# Altium schematic symbol library TpGivenLib.SchLib: 21 symbols
Pins are listed as number, name and electrical type; pins without a type are passive.

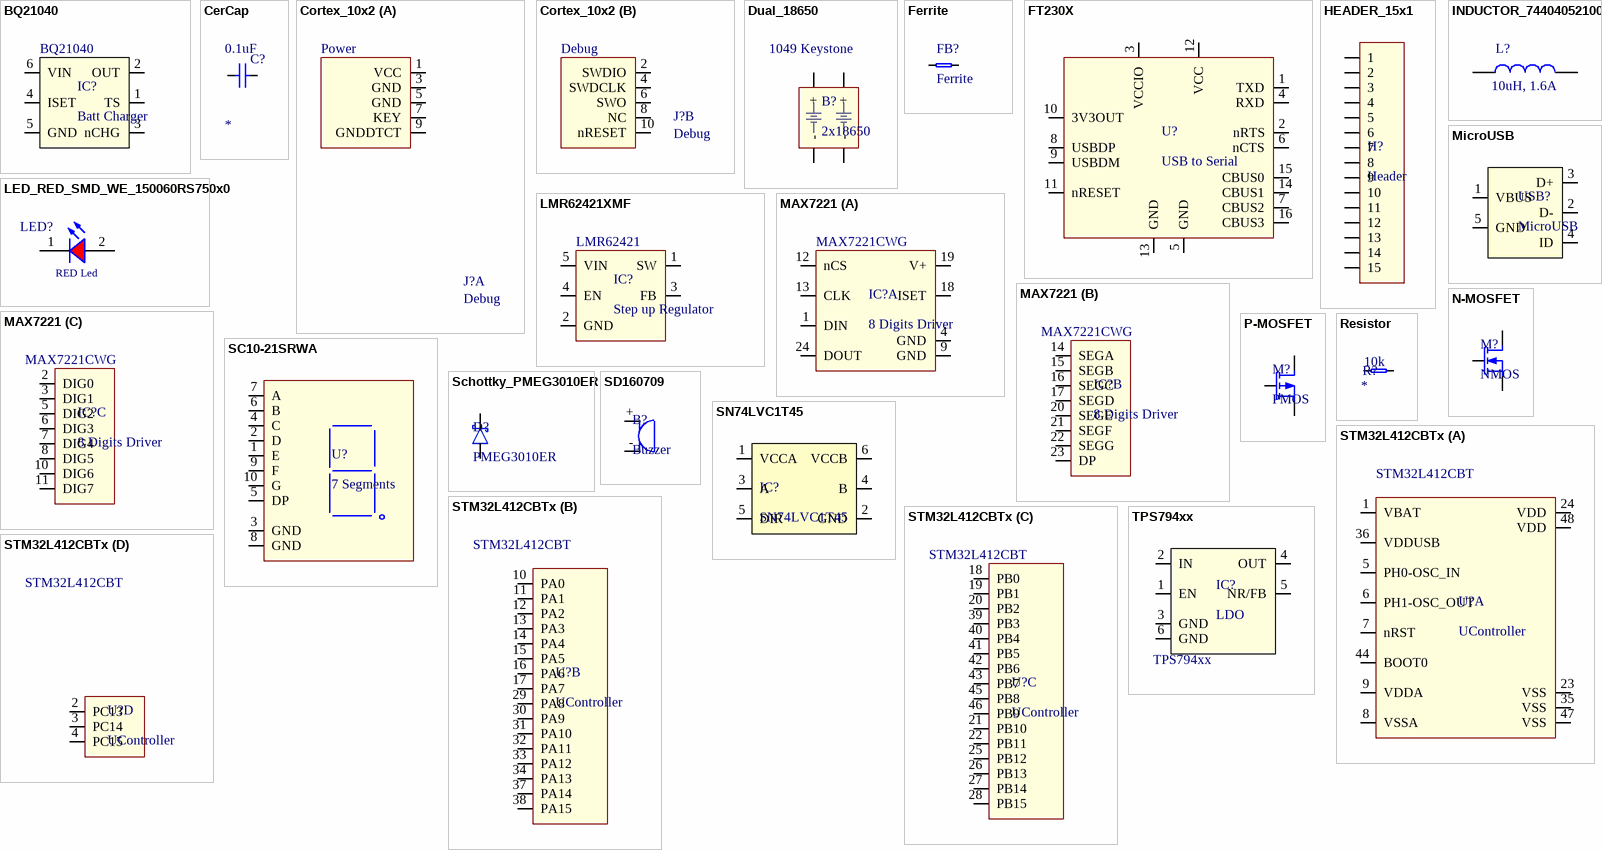
[diagram p0: symbols BQ21040 to TPS794xx]

## BQ21040
designator IC?, comment Batt Charger  chip: BQ21040
Single Input Single Cell Li-ion/Pol Charger
footprint BQ21040 (BQ21040 Texas single Cell Charger SOT23 6 Leads)
pins: 1 TS, 2 OUT, 3 nCHG, 4 ISET, 5 GND, 6 VIN

## CerCap
designator C?  value 0.1uF  (hidden comment: *)
Ceramic Capacitor; Type: *; Voltage/Power: *; Package: *
footprint 0402_CAP_LD (0402 Capacitor low Density)
footprint 0603_CAP_LD (0603 Capacitor Low Density)
footprint 0805_CAP_LD (0805 Capacitor low Density)
pins: 1, 2

## Cortex_10x2
designator J?, comment Debug
Cortex 10 pins Debug Connector
footprint FCI_5x2 (FCI Header 10x2 1.27 pitch)
part A pins: 1 VCC, 3 GND, 5 GND, 7 KEY, 9 GNDDTCT
part B pins: 2 SWDIO, 4 SWDCLK, 6 SWO, 8 NC, 10 nRESET
part A text: Power

## Dual_18650
designator B?, comment 2x18650  ref: 1049 Keystone
Dual 18650 Holder
footprint KEYSTONE_1049_DUAL_18650_HOLDER (Keystone dual 18650 Holder)
pins: A+ +, A- -, B+ +, B- -

## Ferrite
designator FB?
Ferrite Bead
footprint 0603_FER_LD (0603 Ferrite Bead Low Density)
footprint 0603_FER_LD_NAKED (0603 Ferrite Bead Low Density Minimal SilkScreen)
pins: 1, 2

## FT230X
designator U?, comment USB to Serial
FT230X USB to Serial Chip; Reference: FT230XS
footprint FT230XS (FT230XS SSOP16)
pins: 1 TXD, 2 nRTS, 3 VCCIO, 4 RXD, 5 GND, 6 nCTS, 7 CBUS2, 8 USBDP, 9 USBDM, 10 3V3OUT, 11 nRESET, 12 VCC, 13 GND, 14 CBUS1, 15 CBUS0, 16 CBUS3

## HEADER_15x1
designator H?, comment Header
Header 15x1
footprint 653115131822 (1.25mm SMT Male Horizontal Shrouded Header, 15p)
pins: 1, 2, 3, 4, 5, 6, 7, 8, 9, 10, 11, 12, 13, 14, 15

## INDUCTOR_74404052100
designator L?, comment 10uH, 1.6A
WE-LQS SMD Power Inductor, size 5020, 10uH, 1.6A; Part Number: 74404052100; DC Resistance: 109mOhm; Inductance Tolerance: +/-20%; Saturation Current: 1.95A; Self Resonant Frequency: 37MHz; ComponentLink1Description: Manufacturer; ComponentLink1URL: http://www.we-online.de; ComponentLink2Description: Datasheet; ComponentLink2URL: https://katalog.we-online.com/pbs/datasheet/74404052100.pdf; Published Date: May 2019; Publisher: Wurth Elektronik; Rated Current: 1.6A; Inductance: 10uH; Operating Temperature: -40 to +125degC; Mounting Technology: SMT; Packaging: Tape and Reel; DC Resistance Tolerance: +/-20%; Size: 5020; Reference: 74404052100
footprint INDUCTOR_WE-LQS_5020 (SMD Power Inductor, 2-Leads, body 5x5mm)
pins: 1, 2

## LED_RED_SMD_WE_150060RS750x0
designator LED?, comment RED Led
LED RED SMD WE 150060RS750x0; ref: 150060RS750x0
footprint LED_0603_RED (SMD LED 0603)
pins: 1 K, 2 A

## LMR62421XMF
designator IC?, comment Step up Regulator  Reference: LMR62421
LMR62421 simple switcher 24 Vout stepup voltage SOT-23
footprint LMR62421 (LMR62421 Texas SOT-23)
pins: 1 SW, 2 GND, 3 FB, 4 EN, 5 VIN

## MAX7221
designator IC?, comment 8 Digits Driver  Reference: MAX7221CWG
MAX7221 8 Digit 7 Segments Display
footprint MAX7221CWG (MAX7221CWG SOIC 24)
part A pins: 1 DIN, 4 GND, 9 GND, 12 nCS, 13 CLK, 18 ISET, 19 V+, 24 DOUT
part B pins: 14 SEGA, 15 SEGB, 16 SEGC, 17 SEGD, 20 SEGE, 21 SEGF, 22 SEGG, 23 DP
part C pins: 2 DIG0, 3 DIG1, 5 DIG2, 6 DIG3, 7 DIG4, 8 DIG5, 10 DIG6, 11 DIG7

## MicroUSB
designator USB?
Micro USB Header
footprint MOLEX_USB_1050170001 (Molex 1050170001 Micro USB Header)
pins: 1 VBUS, 2 D-, 3 D+, 4 ID, 5 GND

## N-MOSFET
designator M?, comment NMOS
N MOSFET
footprint MOSFET-SOT23 (MOSFET SOT23 Package)
pins: D, G, S

## P-MOSFET
designator M?, comment PMOS
P MOSFET
footprint MOSFET-SOT23 (MOSFET SOT23 Package)
pins: D, G, S

## Resistor
designator R?  value 10k  (hidden comment: Resistor)
Precision: *; Package: *
footprint 0402_RES_LD (0402 Resistor Low Density)
footprint 0603_RES_LD (0603 Resistor Low Density)
pins: 1, 2

## SC10-21SRWA
designator U?, comment 7 Segments
KingBright Led 7 Segments; Reference: SC10-21SRWA
footprint SA10-21GWA (KingBright 7 Segment SA10-21GWA)
pins: 1 E, 2 D, 3 GND, 4 C, 5 DP, 6 B, 7 A, 8 GND, 9 F, 10 G

## Schottky_PMEG3010ER
designator D?, comment PMEG3010ER
Nexperia 1A low Vf Mega Schottky barrier rectifier; Reference: PMEG3010ER
footprint SOD123W (SOD123W Nexperia Low density)
pins: A 1, K 2

## SD160709
designator B?, comment Buzzer
TDK SD160709 Buzzer; Reference: SD160709
footprint SD160709 (TDK SD160709 Buzzer)
pins: +, -

## SN74LVC1T45
designator IC?
Single Bit Dual Supply Buffer
footprint MO-203AB_LD (MO-203AB Low Density SOT23 6 Leads)
pins: 1 VCCA, 2 GND, 3 A, 4 B, 5 DIR, 6 VCCB

## STM32L412CBTx
designator U?, comment UController  reference: STM32L412CBT
ST STM32L412CBTx MicroController
footprint STM32L412CB (STM32L412CB 48 Pins LQFP)
part A pins: 1 VBAT, 5 PH0-OSC_IN, 6 PH1-OSC_OUT, 7 nRST, 8 VSSA, 9 VDDA, 23 VSS, 24 VDD, 35 VSS, 36 VDDUSB, 44 BOOT0, 47 VSS, 48 VDD
part B pins: 10 PA0, 11 PA1, 12 PA2, 13 PA3, 14 PA4, 15 PA5, 16 PA6, 17 PA7, 29 PA8, 30 PA9, 31 PA10, 32 PA11, 33 PA12, 34 PA13, 37 PA14, 38 PA15
part C pins: 18 PB0, 19 PB1, 20 PB2, 21 PB10, 22 PB11, 25 PB12, 26 PB13, 27 PB14, 28 PB15, 39 PB3, 40 PB4, 41 PB5, 42 PB6, 43 PB7, 45 PB8, 46 PB9
part D pins: 2 PC13, 3 PC14, 4 PC15

## TPS794xx
designator IC?, comment LDO  Component: TPS794xx
TI TPS794xx LDO regulator - ultra low noise - high PSRR - RF - 250mA
footprint SOT223-6 (SOT223 package 6pins)
pins: 1 EN, 2 IN, 3 GND, 4 OUT, 5 NR/FB, 6 GND